# Altium schematic symbol library Res Adj2.Schlib: 1 symbol
Pins are listed as number, name and electrical type; pins without a type are passive.

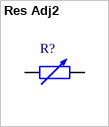
[diagram p0: symbol Res Adj2]

## Res Adj2
designator R?
Variable Resistor
pins: 1, 2